# Altium footprint library ZigBit.pcblib: 3 footprints
Each footprint in its own frame and in the unit in brackets; x right, y up, seen from the top. Pads: shape width x height; smd on the part's side, far side on the other; paste and mask are expansions set on the pad; w line width, h text height; cw(c..) or ccw(c..) is an arc to the next point about the centre after c.
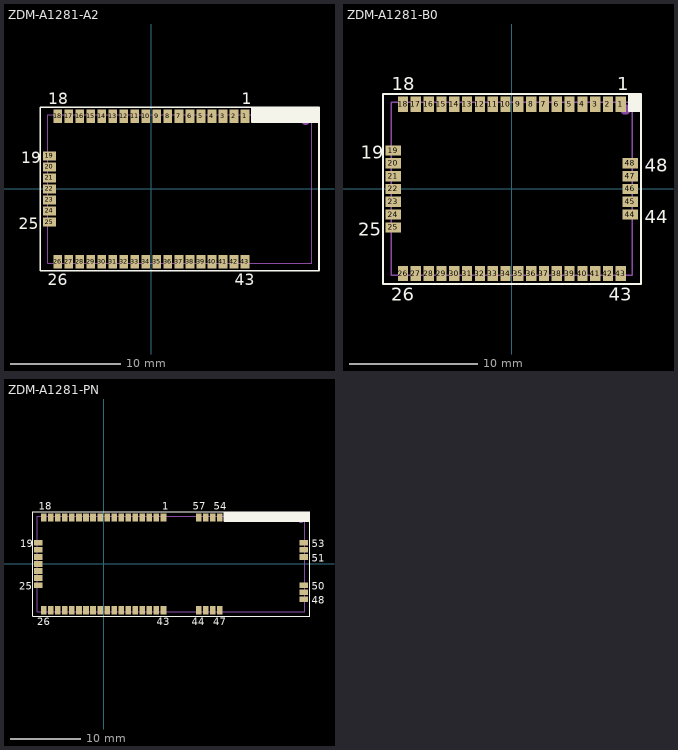
[diagram p0: the footprints below, top view; thin cyan lines are the x and y axes]

## ZDM-A1281-A2 [mm]
pads (43):
  rect 0.8x1.2 smd: 1(8.5,6.6) 2(7.5,6.6) 3(6.5,6.6) 4(5.5,6.6) 5(4.5,6.6) 6(3.5,6.6) 7(2.5,6.6) 8(1.5,6.6) 9(0.5,6.6) 10(-0.5,6.6) 11(-1.5,6.6) 12(-2.5,6.6) 13(-3.5,6.6) 14(-4.5,6.6) 15(-5.5,6.6) 16(-6.5,6.6) 17(-7.5,6.6) 18(-8.5,6.6) 26(-8.5,-6.6) 27(-7.5,-6.6) 28(-6.5,-6.6) 29(-5.5,-6.6) 30(-4.5,-6.6) 31(-3.5,-6.6) 32(-2.5,-6.6) 33(-1.5,-6.6) 34(-0.5,-6.6) 35(0.5,-6.6) 36(1.5,-6.6) 37(2.5,-6.6) 38(3.5,-6.6) 39(4.5,-6.6) 40(5.5,-6.6) 41(6.5,-6.6) 42(7.5,-6.6) 43(8.5,-6.6)
  rect 1.2x0.8 smd: 19(-9.25,3) 20(-9.25,2) 21(-9.25,1) 22(-9.25,0) 23(-9.25,-1) 24(-9.25,-2) 25(-9.25,-3)
Top Overlay:
  region: 9.125,6.075 15.225,6.075 15.225,7.425 9.125,7.425
  lines w0.15: 9.125,7.425 9.125,6.075 15.225,6.075 ; -10.075,-7.425 -10.075,7.425 15.225,7.425 15.225,-7.425 -10.075,-7.425
  text "25" at -12.015,-3.658 h1.02
  text "19" at -11.807,2.342 h1.02
  text "1" at 8.229,7.704 h1.02
  text "26" at -9.417,-8.726 h1.02
  text "18" at -9.361,7.704 h1.02
  text "43" at 7.559,-8.726 h1.02
Mechanical 1:
  circle w0.4: c14.005,6.203 r0.2
  lines w0.1: -9.4,-6.75 -9.4,6.75 14.55,6.75 14.55,-6.75 -9.4,-6.75
  text "25" at -10.676,-3.4 h0.64
  text "19" at -10.545,2.6 h0.64
  text "26" at -9.063,-7.545 h0.64
  text "18" at -9.028,6.77 h0.64
  text "43" at 7.922,-7.545 h0.64
  text "1" at 8.344,6.77 h0.64

## ZDM-A1281-B0 [mm]
pads (48):
  rect 0.8x1.2 smd: 1(8.5,6.6) 2(7.5,6.6) 3(6.5,6.6) 4(5.5,6.6) 5(4.5,6.6) 6(3.5,6.6) 7(2.5,6.6) 8(1.5,6.6) 9(0.5,6.6) 10(-0.5,6.6) 11(-1.5,6.6) 12(-2.5,6.6) 13(-3.5,6.6) 14(-4.5,6.6) 15(-5.5,6.6) 16(-6.5,6.6) 17(-7.5,6.6) 18(-8.5,6.6) 26(-8.5,-6.6) 27(-7.5,-6.6) 28(-6.5,-6.6) 29(-5.5,-6.6) 30(-4.5,-6.6) 31(-3.5,-6.6) 32(-2.5,-6.6) 33(-1.5,-6.6) 34(-0.5,-6.6) 35(0.5,-6.6) 36(1.5,-6.6) 37(2.5,-6.6) 38(3.5,-6.6) 39(4.5,-6.6) 40(5.5,-6.6) 41(6.5,-6.6) 42(7.5,-6.6) 43(8.5,-6.6)
  rect 1.2x0.8 smd: 19(-9.25,3) 20(-9.25,2) 21(-9.25,1) 22(-9.25,0) 23(-9.25,-1) 24(-9.25,-2) 25(-9.25,-3) 44(9.25,-2) 45(9.25,-1) 46(9.25,0) 47(9.25,1) 48(9.25,2)
Top Overlay:
  region: 9.125,6.075 10.075,6.075 10.075,7.425 9.125,7.425
  lines w0.15: 9.125,7.425 9.125,6.075 10.075,6.075 ; -10.075,-7.425 10.075,-7.425 10.075,7.425 -10.075,7.425 -10.075,-7.425
  text "43" at 7.559,-8.726 h1.02
  text "18" at -9.361,7.704 h1.02
  text "26" at -9.417,-8.726 h1.02
  text "1" at 8.229,7.704 h1.02
  text "48" at 10.387,1.342 h1.02
  text "44" at 10.387,-2.658 h1.02
  text "19" at -11.807,2.342 h1.02
  text "25" at -12.015,-3.658 h1.02
Mechanical 1:
  circle w0.4: c8.855,6.203 r0.2
  lines w0.1: -9.4,-6.75 9.4,-6.75 9.4,6.75 -9.4,6.75 -9.4,-6.75
  text "1" at 8.344,6.77 h0.64
  text "43" at 7.922,-7.545 h0.64
  text "18" at -9.028,6.77 h0.64
  text "26" at -9.063,-7.545 h0.64
  text "48" at 9.52,1.6 h0.64
  text "44" at 9.52,-2.4 h0.64
  text "19" at -10.545,2.6 h0.64
  text "25" at -10.676,-3.4 h0.64

## ZDM-A1281-PN [mm]
pads (57):
  rect 0.8x1.2 smd: 1(8.5,6.6) 2(7.5,6.6) 3(6.5,6.6) 4(5.5,6.6) 5(4.5,6.6) 6(3.5,6.6) 7(2.5,6.6) 8(1.5,6.6) 9(0.5,6.6) 10(-0.5,6.6) 11(-1.5,6.6) 12(-2.5,6.6) 13(-3.5,6.6) 14(-4.5,6.6) 15(-5.5,6.6) 16(-6.5,6.6) 17(-7.5,6.6) 18(-8.5,6.6) 26(-8.5,-6.6) 27(-7.5,-6.6) 28(-6.5,-6.6) 29(-5.5,-6.6) 30(-4.5,-6.6) 31(-3.5,-6.6) 32(-2.5,-6.6) 33(-1.5,-6.6) 34(-0.5,-6.6) 35(0.5,-6.6) 36(1.5,-6.6) 37(2.5,-6.6) 38(3.5,-6.6) 39(4.5,-6.6) 40(5.5,-6.6) 41(6.5,-6.6) 42(7.5,-6.6) 43(8.5,-6.6) 44(13.5,-6.6) 45(14.5,-6.6) 46(15.5,-6.6) 47(16.5,-6.6) 54(16.5,6.6) 55(15.5,6.6) 56(14.5,6.6) 57(13.5,6.6)
  rect 1.2x0.8 smd: 19(-9.25,3) 20(-9.25,2) 21(-9.25,1) 22(-9.25,0) 23(-9.25,-1) 24(-9.25,-2) 25(-9.25,-3) 48(28.45,-5) 49(28.45,-4) 50(28.45,-3) 51(28.45,1) 52(28.45,2) 53(28.45,3)
Top Overlay:
  region: 17.125,6.075 29.275,6.075 29.275,7.425 17.125,7.425
  lines w0.15: 17.125,7.425 17.125,6.075 29.275,6.075 ; -10.075,-7.425 29.275,-7.425 29.275,7.425 -10.075,7.425 -10.075,-7.425
  text "57" at 12.686,7.704 h1.02
  text "54" at 15.662,7.704 h1.02
  text "47" at 15.559,-8.726 h1.02
  text "44" at 12.535,-8.726 h1.02
  text "1" at 8.356,7.704 h1.02
  text "43" at 7.559,-8.726 h1.02
  text "18" at -9.234,7.704 h1.02
  text "26" at -9.417,-8.726 h1.02
  text "53" at 29.577,2.342 h1.02
  text "51" at 29.577,0.342 h1.02
  text "50" at 29.577,-3.658 h1.02
  text "48" at 29.577,-5.658 h1.02
  text "19" at -11.807,2.342 h1.02
  text "25" at -12.015,-3.658 h1.02
Mechanical 1:
  circle w0.4: c28.055,6.203 r0.2
  lines w0.1: -9.4,-6.75 28.6,-6.75 28.6,6.75 -9.4,6.75 -9.4,-6.75
  text "57" at 12.922,6.77 h0.64
  text "54" at 15.907,6.77 h0.64
  text "47" at 15.922,-7.545 h0.64
  text "44" at 12.907,-7.545 h0.64
  text "1" at 8.344,6.77 h0.64
  text "43" at 7.922,-7.545 h0.64
  text "18" at -9.028,6.77 h0.64
  text "26" at -9.063,-7.545 h0.64
  text "53" at 28.71,2.6 h0.64
  text "51" at 28.71,0.6 h0.64
  text "50" at 28.71,-3.4 h0.64
  text "48" at 28.71,-5.4 h0.64
  text "19" at -10.545,2.6 h0.64
  text "25" at -10.676,-3.4 h0.64